# Altium footprint library PCB - MICROPHONE - KNOWLES SPW2430HR5H-B.PcbLib: 1 footprints
Each footprint in its own frame and in the unit in brackets; x right, y up, seen from the top. Pads: shape width x height; smd on the part's side, far side on the other; paste and mask are expansions set on the pad; w line width, h text height; cw(c..) or ccw(c..) is an arc to the next point about the centre after c.
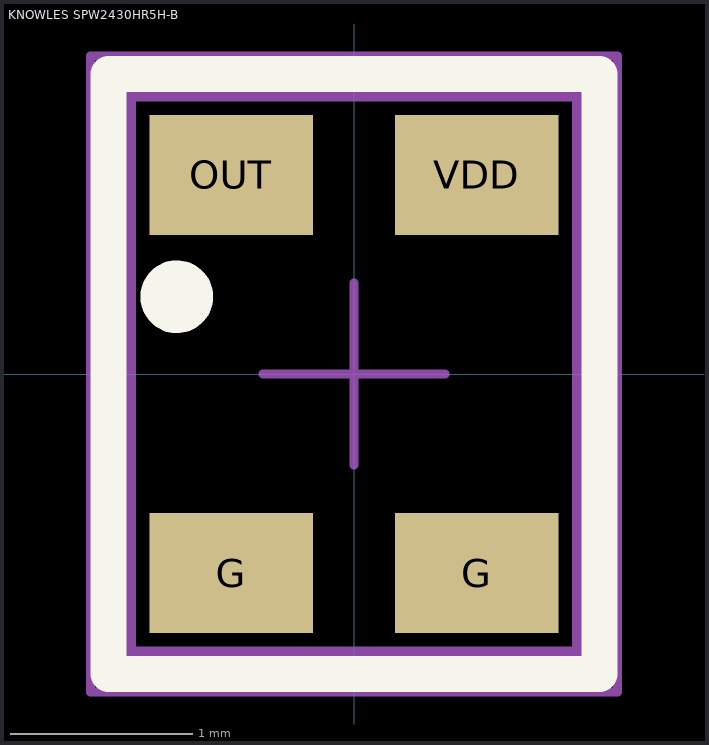
[diagram p0: the footprint, top view; thin cyan lines are the x and y axes]

## KNOWLES SPW2430HR5H-B [mm] "SiSonicTM Microphone 3.1x2.5mm"
height 1
pads (4):
  rect 0.9x0.66 smd: G(-0.675,-1.095) G(0.675,-1.095) OUT(-0.675,1.095) VDD(0.675,1.095)
Top Overlay:
  circle w0.2: c-0.975,0.425 r0.1
  lines w0.2: -1.35,-1.65 1.35,-1.65 1.35,1.65 -1.35,1.65 -1.35,-1.65
Mechanical 13:
  lines w0.1: -1.25,-1.55 1.25,-1.55 1.25,1.55 -1.25,1.55 -1.25,-1.55
Mechanical 15:
  lines w0.05: -0.5,0 0.5,0 ; 0,-0.5 0,0.5 ; -1.45,-1.75 1.45,-1.75 1.45,1.75 -1.45,1.75 -1.45,-1.75
3D body "Knowles - SPW2430HR5H-B.step": height 1.1, standoff 0, extent -1.25,-1.55 1.25,1.55